# Altium footprint library Funcgen.PcbLib: 12 footprints
Each footprint in its own frame and in the unit in brackets; x right, y up, seen from the top. Pads: shape width x height; smd on the part's side, far side on the other; paste and mask are expansions set on the pad; w line width, h text height; cw(c..) or ccw(c..) is an arc to the next point about the centre after c.
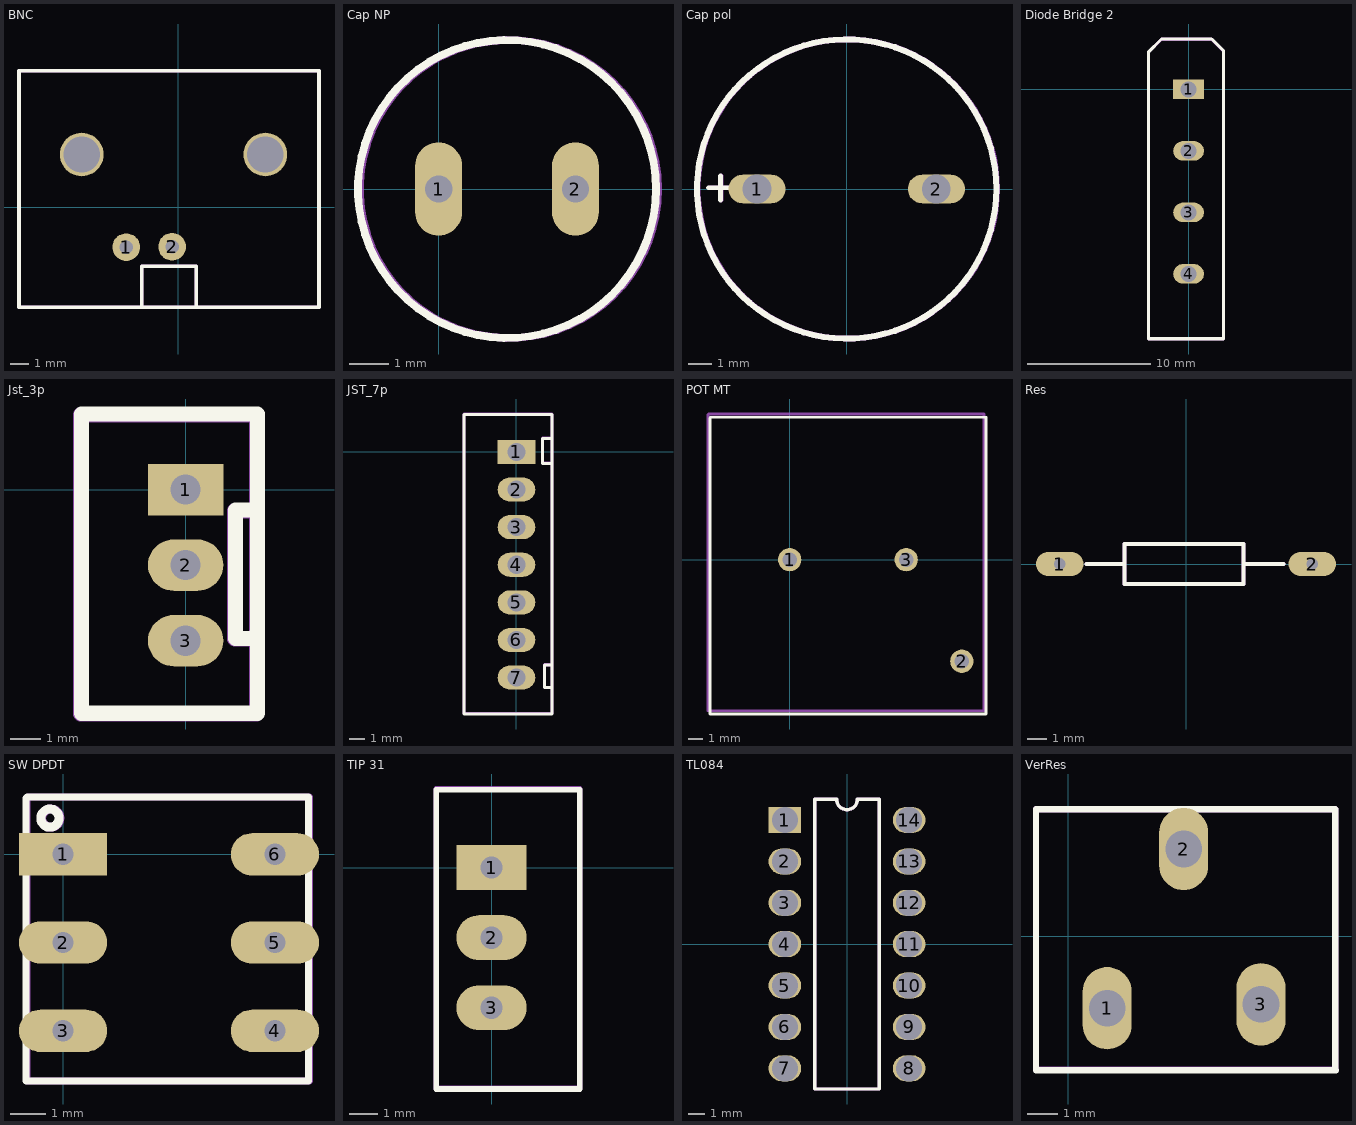
[diagram p0: the footprints below, top view; thin cyan lines are the x and y axes]

## BNC [mm]
pads (4):
  round 1.524 hole 0.762: 1(-2.85,-2.2) 2(-0.325,-2.175)
  round 2.4 hole 2: ""(-5.3,2.9) ""(4.8,2.9)
Top Overlay:
  lines w0.2: -8.75,-5.5 -3.25,-5.5 7.75,-5.5 7.75,7.5 -8.75,7.5 -8.75,-5.5 ; -2,-5.5 1,-5.5 1,-3.25 0,-3.25 -2,-3.25 -2,-5.5
Mechanical 1:
  lines w0.2: -8.75,-5.5 -8.75,7.5 7.75,7.5 7.75,-5.5 -3.25,-5.5 -8.75,-5.5 ; -2,-5.5 -2,-3.25 -0.25,-3.25 1,-3.25 1,-5.5 -2,-5.5
3D body "78m7206_1-1478032-0.stp": height 15.21, standoff -4.89, extent -7.65,-4.2 7.05,31.3

## Cap NP [mm]
pads (2):
  oval 1.2x2.388 hole 0.7: 1(0,0) 2(3.5,0)
Top Overlay:
  circle w0.2: c1.75,0 r3.81
Mechanical 1:
  circle w0.2: c1.8,0 r3.81
3D body "CAPACITOR RADIAL 8X12.step": height 12, standoff -2.5, extent -2.2,-4 5.8,4

## Cap pol [mm]
pads (2):
  oval 2.388x1.2 hole 1.2: 1(-3.75,0) 2(3.75,0)
Top Overlay:
  circle w0.254: c0,0 r6.262
  lines w0.2: -5.783,0.05 -4.767,0.05 ; -5.275,-0.458 -5.275,0.558
Mechanical 1:
  circle w0.254: c0.025,0 r6.262
  lines w0.2: -5.758,0.05 -4.742,0.05 ; -5.25,-0.458 -5.25,0.558
3D body "CAPACITOR pol.step": height 25.75, standoff -2.75, extent -8.25,-8.25 8.259,8.25

## Diode Bridge 2 [mm]
pads (4):
  rect 2.5x1.6 hole 1.3: 1(0,0)
  oval 2.5x1.6 hole 1.3: 2(0,-5) 3(0,-10) 4(0,-15)
Top Overlay:
  lines w0.254: -3.275,-20.275 2.85,-20.275 2.85,3.125 1.875,4.1 -2.2,4.1 -3.275,3.025 -3.275,-20.275
Mechanical 1:
  lines w0.254: -3.275,-20.3 2.85,-20.3 2.85,3.1 1.875,4.075 -2.2,4.075 -3.275,3 -3.275,-20.3
3D body "User Library-GBU Vishay.step": height 20.84, standoff -15.71, extent -2.25,-18.8 1.31,3.5

## Jst_3p [mm]
pads (3):
  rect 2.5x1.7 hole 1: 1(0,0)
  oval 2.5x1.7 hole 1: 2(0,-2.5) 3(0,-5)
Top Overlay:
  lines w0.5: 2.3,-4.825 2.3,-4.925 1.65,-4.925 1.65,-0.675 2.35,-0.675 ; -3.45,-7.4 2.375,-7.4 2.375,2.5 -3.4,2.5 -3.45,2.5 -3.45,-7.4
Mechanical 1:
  lines w0.5: 2.275,-4.85 2.275,-4.95 1.625,-4.95 1.625,-0.7 2.325,-0.7 ; -3.475,-7.425 -3.475,2.475 -3.425,2.475 2.35,2.475 2.35,-7.425 -3.475,-7.425
3D body "User Library-jst-b3b-xh-a.step": height 7.01, standoff -3.39, extent -3.425,-7.4 2.325,2.5

## JST_7p [mm]
pads (7):
  rect 2.5x1.6 hole 1.2: 1(0,0)
  oval 2.5x1.6 hole 1.2: 2(0,-2.5) 3(0,-5) 4(0,-7.5) 5(0,-10) 6(0,-12.5) 7(0,-15)
Top Overlay:
  lines w0.2: 2.275,-15.675 1.85,-15.675 1.85,-14.175 2.325,-14.175 ; 2.275,-0.775 1.725,-0.775 1.725,0.9 2.275,0.9 ; -3.475,-17.425 2.35,-17.425 2.35,2.5 -3.35,2.5 -3.475,2.5 -3.475,-17.425
Mechanical 1:
  lines w0.2: 2.275,-15.65 1.85,-15.65 1.85,-14.15 2.325,-14.15 ; 2.275,-0.75 1.725,-0.75 1.725,0.925 2.275,0.925 ; -3.475,-17.4 -3.475,2.525 -3.35,2.525 2.35,2.525 2.35,-17.4 -3.475,-17.4
3D body "User Library-B7B-XH-A.STEP": height 7.01, standoff -3.39, extent -3.35,-17.4 2.4,2.5

## POT MT [mm]
pads (3):
  round 1.6 hole 1: 1(0,0) 2(11.825,-6.975) 3(8,0)
Top Overlay:
  lines w0.2: -5.475,-10.6 -5.475,9.738 -5.438,9.775 13.475,9.775 13.475,-10.6 -5.475,-10.6
Mechanical 1:
  lines w0.2: -5.6,-10.375 13.35,-10.375 13.35,10 -5.563,10 -5.6,9.963 -5.6,-10.375
3D body "User Library-POTENTIOMETER BOURNS 3450S.step": height 23.25, standoff -3.14, extent -26.66,-10.55 13.15,9.65

## Res [mm]
pads (2):
  oval 2.388x1.2 hole 0.6: 1(-6.35,0) 2(6.35,0)
Top Overlay:
  lines w0.2: -5,0 -3.149,0 ; 2.9,0 4.9,0 ; -3.1,-1 2.9,-1 2.9,1 -3.1,1 -3.1,0.2 -3.1,-1
Mechanical 1:
  lines w0.2: -5,0 -3.149,0 ; 2.9,0 4.9,0 ; -3.1,-1 -3.1,0.2 -3.1,1 2.9,1 2.9,-1 -3.1,-1
3D body "Resistor 0_25w.step": height 2.79, standoff -2.79, extent -6.629,-1.27 6.63,1.27

## SW DPDT [mm]
pads (6):
  rect 2.5x1.2 hole 0.6: 1(0,0)
  oval 2.5x1.2 hole 0.6: 2(0,-2.5) 3(0,-5) 4(6,-5) 5(6,-2.5) 6(6,0)
Top Overlay:
  circle w0.254: c-0.375,1.025 r0.257
  lines w0.2: -1.05,-6.425 -1.05,1.6 -1.025,1.625 6.95,1.625 6.95,-6.425 -1.05,-6.425
Mechanical 1:
  circle w0.254: c-0.35,1.025 r0.257
  lines w0.2: -1.025,-6.425 6.975,-6.425 6.975,1.625 -1,1.625 -1.025,1.6 -1.025,-6.425
3D body "MSwitch.STEP": height 12.25, standoff -3.64, extent -1.074,-6.457 6.926,1.543

## TIP 31 [mm]
pads (3):
  rect 2.5x1.6 / inner rect 2.5x16 / far side rect 2.5x1.6 hole 0.8: 1(0,0)
  oval 2.5x1.6 / inner oval 2.5x16 / far side oval 2.5x1.6 hole 0.8: 2(0,-2.5) 3(0,-5)
Top Overlay:
  lines w0.2: -1.975,-7.9 -1.975,2.775 3.15,2.775 3.15,-7.9 -1.975,-7.9
Mechanical 1:
  lines w0.2: -1.975,-7.875 3.15,-7.875 3.15,2.8 -1.975,2.8 -1.975,-7.875
3D body "79374.stp": height 22.62, standoff -8.37, extent -1.733,-7.885 3.097,2.785

## TL084 [mm]
pads (14):
  rect 2x1.6 hole 1.6: 1(-3.81,7.62)
  oval 2x1.6 hole 1.6: 2(-3.81,5.08) 3(-3.81,2.54) 4(-3.81,0) 5(-3.81,-2.54) 6(-3.81,-5.08) 7(-3.81,-7.62) 8(3.81,-7.62) 9(3.81,-5.08) 10(3.81,-2.54) 11(3.81,0) 12(3.81,2.54) 13(3.81,5.08) 14(3.81,7.62)
Top Overlay:
  lines w0.2: -1.975,-8.89 1.975,-8.89 1.975,8.89 0.635,8.89 cw(c0,8.89) -0.635,8.89 -1.975,8.89 -1.975,-8.89
Mechanical 1:
  lines w0.2: -1.975,-8.89 -1.975,8.89 -0.635,8.89 ccw(c0,8.89) 0.635,8.89 1.975,8.89 1.975,-8.89 -1.975,-8.89
3D body "DIP 14 IC.step": height 5.1, standoff -3.3, extent -3.96,-10.05 3.91,9.95

## VerRes [mm]
pads (3):
  oval 1.6x2.692 hole 1.2: 1(1.275,-2.35) 2(3.775,2.85) 3(6.3,-2.225)
Top Overlay:
  lines w0.2: 8.725,-4.375 8.725,4.15 -1.05,4.15 -1.05,-4.375 8.75,-4.375
Mechanical 1:
  lines w0.2: 8.725,-4.35 8.725,4.15 -1.05,4.15 -1.05,-4.35 8.75,-4.35
3D body "Pot - RES_VAR1.STEP": height 7.41, standoff -3.49, extent 0.5,-3.525 7,3.525